# Altium schematic symbol library lib_bourns.SchLib: 3 symbols
Pins are listed as number, name and electrical type; pins without a type are passive.

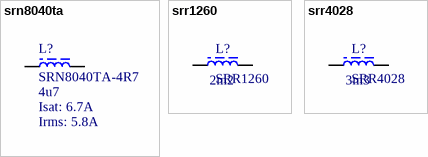
[diagram p0: symbols srn8040ta to srr4028]

## srn8040ta
designator L?, comment SRN8040TA-4R7  value 4u7  Isat: 6.7A  Irms: 5.8A
Semi-shielded Power Inductors; ComponentLink1Description: Datasheet; ComponentLink1URL: https://www.bourns.com/docs/Product-Datasheets/SRR4028.pdf
footprint INDP8080X45N_SRN8040TA (Precision Wire Wound Inductor, 2-Leads, Body 8.00x8.00mm, IPC Medium Density)
pins: 1, 2

## srr1260
designator L?, comment SRR1260  value 2m2
ComponentLink1Description: series; ComponentLink1URL: https://www.bourns.com/docs/Product-Datasheets/SRR1260.pdf
footprint SRR1260
pins: 1, 2

## srr4028
designator L?, comment SRR4028  value 3m3
ComponentLink1Description: series; ComponentLink1URL: https://www.bourns.com/docs/Product-Datasheets/SRR4028.pdf
footprint SRR4028
pins: 1, 2